# EAGLE library part 634008149821 (library WR-MJ)
WR-MJ Cat 3 Modular Jacks – SMT Characteristics Shieldingless and Shielded with EMI-Spring option Optional LEDs in various sequences Vertical and Horizontal orientation Tape & Reel packaging for pick-and-place assembly Properties PoE++ Compatible up to 100W (IEEE 802.3bt) UL and cULus-Certified UL94-V0 reflow-compatible insulator material Ethernet Category 3 – Category 5 under conditions Applications Networks Internet of Things Smart Buildings <https://www.we-online.com/components/media/o60696v209%20Multi-WR-MJSM-634008149821.jpg> Details see: www.we-online.com/en/components/products/WR_MJ_MODULAR_JACKS_SMT <www.we-online.com/catalog/WR_MJ_MODULAR_JACKS_SMT/?utm_source=eagle_model&utm_medium=description_link&utm_campaign=eisos_eagle> Updated by Ella 2025-09-22 2025 (C) Würth Elektronik
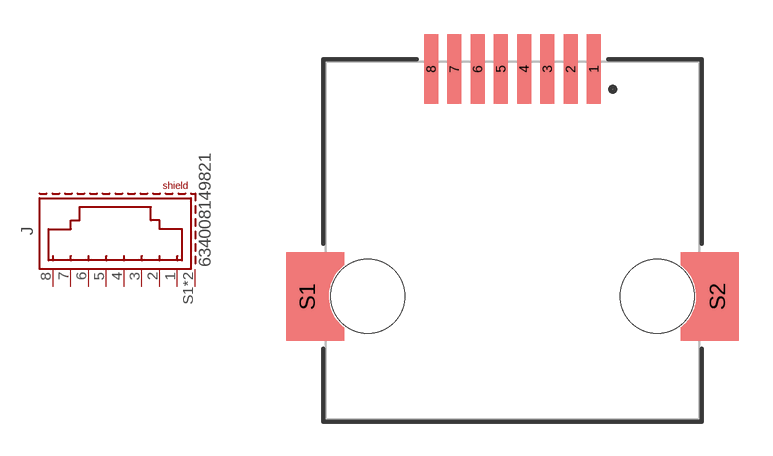
[diagram p64: symbol with the pads of 634008149821; footprint 634008149821]

Designator prefix J

## 634008149821 (APPLICATION-SYSTEM: CAT 3; DATASHEET-URL: https://www.we-online.com/redexpert/spec/634008149821?ae; EMI: Yes; LED: /; MOUNT: SMT; PART-NUMBER: 634008149821; SIZE: Horizontal; TAB: Up; VALUE: 634008149821; XPXC: 8P8C)  [634008149821]
1  1  pas
2  2  pas
3  3  pas
4  4  pas
5  5  pas
6  6  pas
7  7  pas
8  8  pas
S1  SHIELD  pas
S2  SHIELD  pas

## Footprint 634008149821 (pad centres in mm)
WR-MJ Modular Jack Horizontal Shielded SMT 8P8C Tab Up
smd 0.61 x 3.05: 1 3.57,7.53; 2 2.55,7.53; 3 1.53,7.53; 4 0.51,7.53; 5 -0.51,7.53; 6 -1.53,7.53; 7 -2.55,7.53; 8 -3.57,7.53
smd 1 x 3.89: S1 -9,-2.45; S2 9,-2.45
hole 3.25 at -6.35,-2.45
hole 3.25 at 6.35,-2.45